# Altium schematic symbol library micrel-ethernet.SchLib: 2 symbols
Pins are listed as number, name and electrical type; pins without a type are passive.

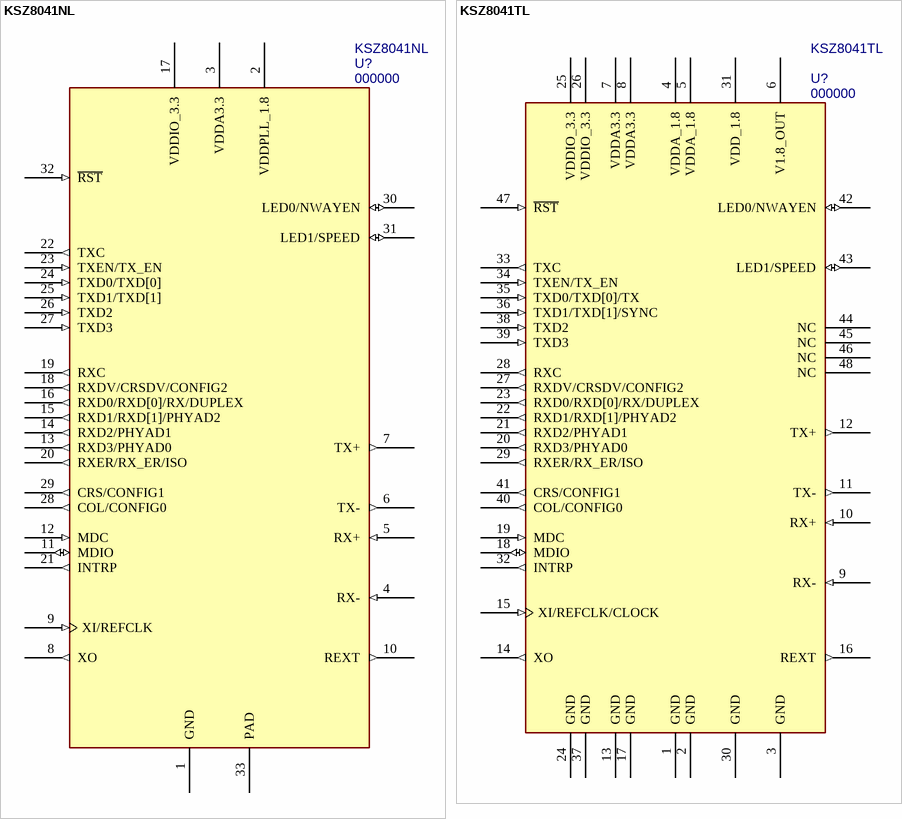
[diagram p0: symbols KSZ8041NL to KSZ8041TL]

## KSZ8041NL
designator U?, comment 000000  value KSZ8041NL
10Base-T/100Base-TX Physical Layer Transceiver; Package: 32-MLF; PN: 000000; ExtraInfo: *
footprint 32-MLF (QFN, 32-Leads, Body 5.0x5.0mm (max), Pitch 0.50mm, IPC Medium Density)
pins: 1 GND (power), 2 VDDPLL_1.8 (power), 3 VDDA3.3 (power), 4 RX- (in), 5 RX+ (in), 6 TX- (out), 7 TX+ (out), 8 XO (out), 9 XI/REFCLK (in), 10 REXT (out), 11 MDIO (io), 12 MDC (in), 13 RXD3/PHYAD0 (out), 14 RXD2/PHYAD1 (out), 15 RXD1/RXD[1]/PHYAD2 (out), 16 RXD0/RXD[0]/RX/DUPLEX (out), 17 VDDIO_3.3 (power), 18 RXDV/CRSDV/CONFIG2 (out), 19 RXC (out), 20 RXER/RX_ER/ISO (out), 21 INTRP (out), 22 TXC (out), 23 TXEN/TX_EN (in), 24 TXD0/TXD[0] (in), 25 TXD1/TXD[1] (in), 26 TXD2 (in), 27 TXD3 (in), 28 COL/CONFIG0 (out), 29 CRS/CONFIG1 (out), 30 LED0/NWAYEN (io), 31 LED1/SPEED (io), 32 ~{RST} (in), 33 PAD (power)

## KSZ8041TL
designator U?, comment 000000  value KSZ8041TL
10Base-T/100Base-TX Physical Layer Transceiver; PN: 000000; Package: 48-TQFP; ExtraInfo: *
footprint 48-TQFP (TSQFP, 48-Leads, Body 9.0x9.0mm (max), Pitch 0.50mm, IPC High Density)
pins: 1 GND (power), 2 GND (power), 3 GND (power), 4 VDDA_1.8 (power), 5 VDDA_1.8 (power), 6 V1.8_OUT (power), 7 VDDA3.3 (power), 8 VDDA3.3 (power), 9 RX- (in), 10 RX+ (in), 11 TX- (out), 12 TX+ (out), 13 GND (power), 14 XO (out), 15 XI/REFCLK/CLOCK (in), 16 REXT (out), 17 GND (power), 18 MDIO (io), 19 MDC (in), 20 RXD3/PHYAD0 (out), 21 RXD2/PHYAD1 (out), 22 RXD1/RXD[1]/PHYAD2 (out), 23 RXD0/RXD[0]/RX/DUPLEX (out), 24 GND (power), 25 VDDIO_3.3 (power), 26 VDDIO_3.3 (power), 27 RXDV/CRSDV/CONFIG2 (out), 28 RXC (out), 29 RXER/RX_ER/ISO (out), 30 GND (power), 31 VDD_1.8 (power), 32 INTRP (out), 33 TXC (out), 34 TXEN/TX_EN (in), 35 TXD0/TXD[0]/TX (in), 36 TXD1/TXD[1]/SYNC (in), 37 GND (power), 38 TXD2 (in), 39 TXD3 (in), 40 COL/CONFIG0 (out), 41 CRS/CONFIG1 (out), 42 LED0/NWAYEN (io), 43 LED1/SPEED (io), 44 NC, 45 NC, 46 NC, 47 ~{RST} (in), 48 NC